# EAGLE library part 2X6 (library teelsys-0.2)
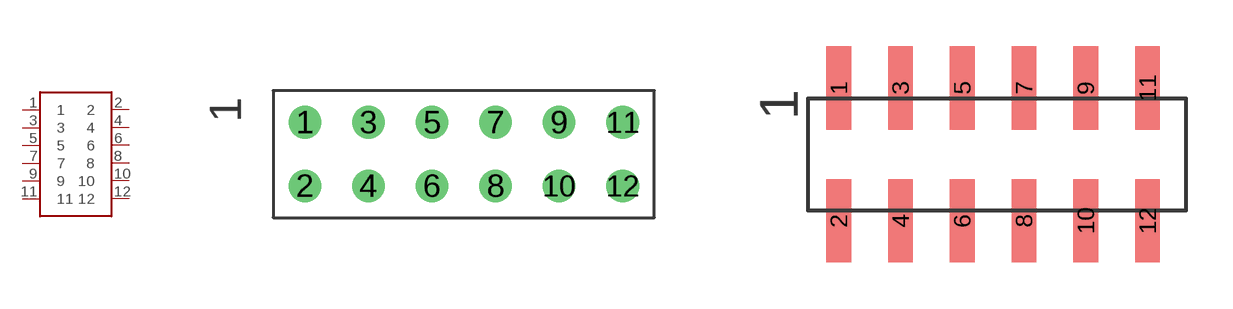
[diagram p6: symbol with the pads of 2X6; footprints 2X6, 2X6-SMT]

Designator prefix -

## 2X6THROUGH_HOLE  [2X6]
1  1
2  2
3  3
4  4
5  5
6  6
7  7
8  8
9  9
10  10
11  11
12  12

## 2X6SMT  [2X6-SMT]
Pads as for 2X6

## Footprint 2X6 (pad centres in mm)
drill 0.8: 1 -6.35,1.27; 2 -6.35,-1.27; 3 -3.81,1.27; 4 -3.81,-1.27; 5 -1.27,1.27; 6 -1.27,-1.27; 7 1.27,1.27; 8 1.27,-1.27; 9 3.81,1.27; 10 3.81,-1.27; 11 6.35,1.27; 12 6.35,-1.27

## Footprint 2X6-SMT (pad centres in mm)
smd 0.8 x 2.7: 1 -4.49,2.15; 2 -4.49,-2.15; 3 -2.49,2.15; 4 -2.49,-2.15; 5 -0.49,2.15; 6 -0.49,-2.15; 7 1.51,2.15; 8 1.51,-2.15; 9 3.51,2.15; 10 3.51,-2.15; 11 5.51,2.15; 12 5.51,-2.15